# Altium schematic symbol library EC11E18244AU.SchLib: 1 symbol
Pins are listed as number, name and electrical type; pins without a type are passive.

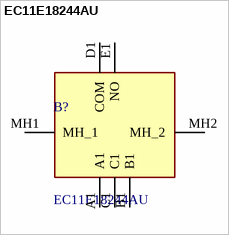
[diagram p0: symbol EC11E18244AU]

## EC11E18244AU
designator B?
Alps 18 Pulse Incremental Mechanical Rotary Encoder with a 6 mm Flat Shaft (Not Indexed), Through Hole 10mA 5V DC; Manufacturer_Name: ALPS Electric; Geometry.Height: 24.5mm; Manufacturer_Part_Number: EC11E18244AU; Mouser Part Number: 688-EC11E18244AU; Mouser Price/Stock: https://www.mouser.co.uk/ProductDetail/Alps-Alpine/EC11E18244AU?qs=YMSFtX0bdJDrS4vspzwcPg%3D%3D; Arrow Part Number: *; Arrow Price/Stock: *; Datasheet Link: https://tech.alpsalpine.com/cms.media/product_catalog_ec_01_ec11e_en_611f078659.pdf
footprint EC11E18244AU
footprint EC11E18244AU (Footprint not found)
pins: A1, B1, C1, D1 COM, E1 NO, MH1 MH_1, MH2 MH_2